# Altium integrated library Linear Technology Operational Amplifiers (LT2000-LT6000).IntLib: 1710 symbols (part 8 of 75)
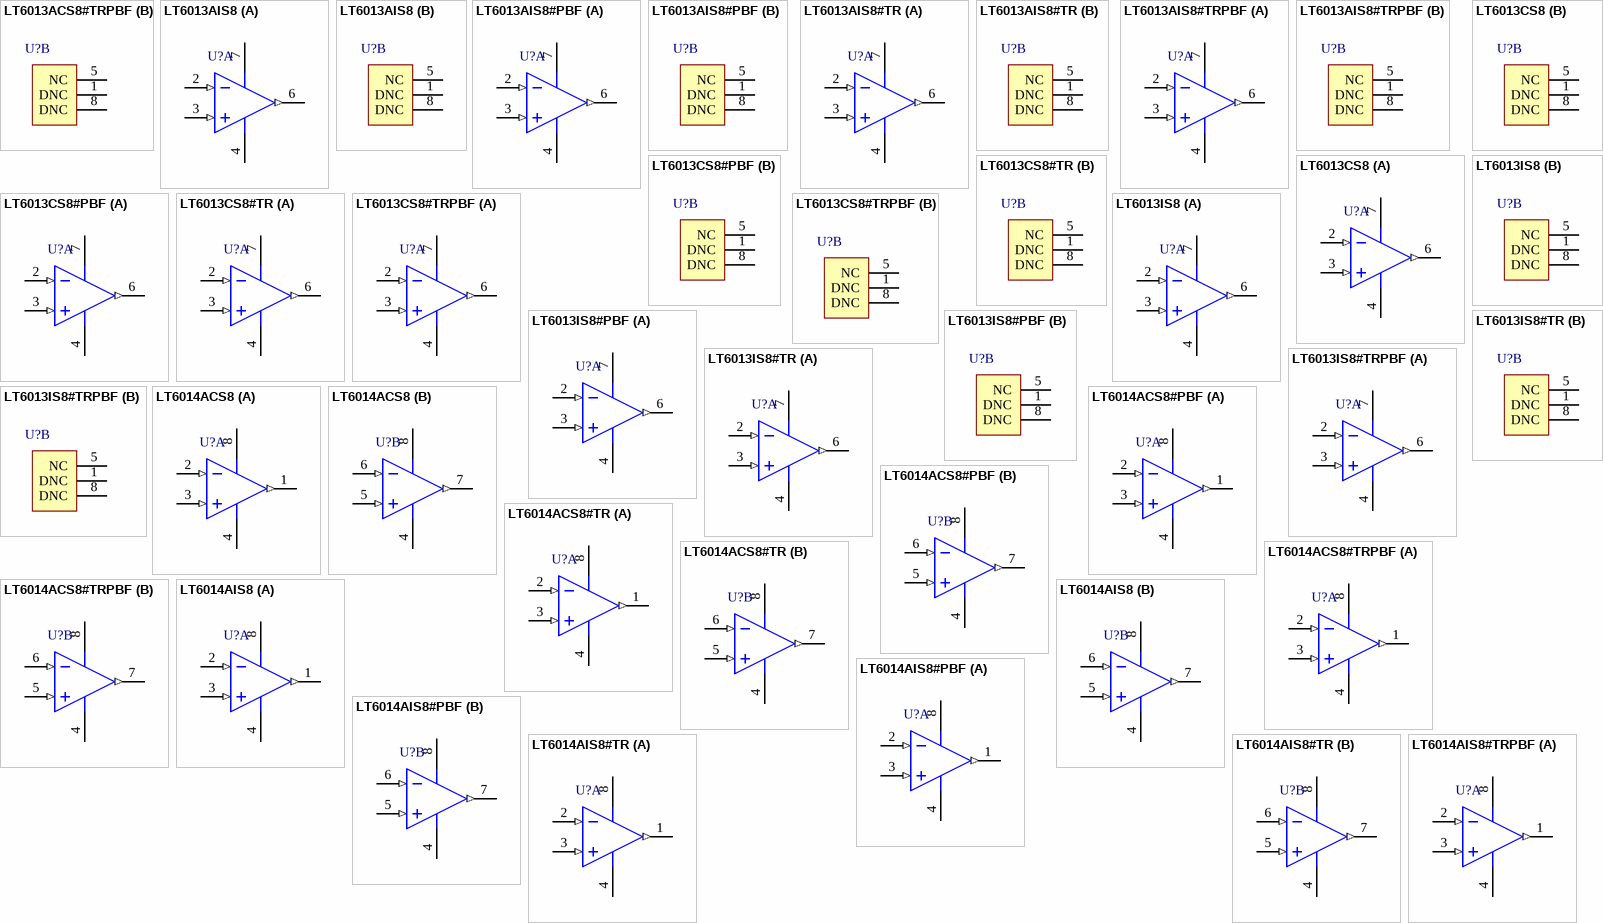
[diagram p87: symbols LT6013ACS8#TRPBF to LT6014AIS8#TRPBF]

## LT6013CS8#PBF
designator U?
Single Channel, Micropower, Precision Operational Amplifier, RRO, 1.6 MHz Typical GBW, 0.2 V/us Typical SR, 2.7 to 40 V, 8-Pin SOIC (S8-8), Commercial, Pb-Free; Linear Technology Part Number: LT6013; Manufacturer: Linear Technology; PartNumber: LT6013CS8#PBF; Channels (#): 1; GBW (MHz) Typical: 1.6; Is (mA) Typical: 0.145; SR (V/us) Typical: 0.2; Vos (mV) Guaranteed: 0.035; Vos (mV) Typical: 0.01; Vs Max (V): 40; Vs Min (V): 2.7; DatasheetVersion: Rev. B; PackageVersion: Rev G; PackageReference: LT-S8-8; PackageDescription: 8-Pin Plastic Small Outline, Body 4.9 x 3.9 mm, Pitch 1.27 mm; Supplier 1: Digi-Key; Supplier Part Number 1: LT6013CS8#PBF-ND; Supplier 2: Farnell; Supplier Part Number 2: 1330746; Supplier 3: Newark; Supplier Part Number 3: 57M9069; RoHS: Pb-Free; Type: VFB; Mounting Technology: Surface Mount; ComponentLink1Description: Manufacturer URL; ComponentLink1URL: http://www.linear.com/; ComponentLink2Description: Datasheet; ComponentLink2URL: http://cds.linear.com/docs/en/datasheet/60134fb.pdf; ComponentLink3Description: Package Specification; ComponentLink3URL: http://cds.linear.com/docs/en/packaging/05081610_G_SO8.pdf
footprint LT-S8-8_N (SOIC, 8-Leads, Body 4.9x3.9mm, Pitch 1.27mm, IPC Medium Density)
footprint LT-S8-8_L (SOIC, 8-Leads, Body 4.9x3.9mm, Pitch 1.27mm, IPC High Density)
footprint LT-S8-8_M (SOIC, 8-Leads, Body 4.9x3.9mm, Pitch 1.27mm, IPC Low Density)
part A pins: 2 -IN (in), 3 +IN (in), 4 V- (power), 6 OUT (out), 7 V+ (power)
part B pins: 1 DNC, 5 NC, 8 DNC

## LT6013CS8#TR
designator U?
Single Channel, Micropower, Precision Operational Amplifier, RRO, 1.6 MHz Typical GBW, 0.2 V/us Typical SR, 2.7 to 40 V, 8-Pin SOIC (S8-8), Commercial, Reel; Linear Technology Part Number: LT6013; Manufacturer: Linear Technology; PartNumber: LT6013CS8#TR; Channels (#): 1; GBW (MHz) Typical: 1.6; Is (mA) Typical: 0.145; SR (V/us) Typical: 0.2; Vos (mV) Guaranteed: 0.035; Vos (mV) Typical: 0.01; Vs Max (V): 40; Vs Min (V): 2.7; DatasheetVersion: Rev. B; PackageVersion: Rev G; PackageReference: LT-S8-8; PackageDescription: 8-Pin Plastic Small Outline, Body 4.9 x 3.9 mm, Pitch 1.27 mm; Supplier 1: Digi-Key; Supplier Part Number 1: LT6013CS8#TR-ND; Packing: Reel; Type: VFB; Mounting Technology: Surface Mount; ComponentLink1Description: Manufacturer URL; ComponentLink1URL: http://www.linear.com/; ComponentLink2Description: Datasheet; ComponentLink2URL: http://cds.linear.com/docs/en/datasheet/60134fb.pdf; ComponentLink3Description: Package Specification; ComponentLink3URL: http://cds.linear.com/docs/en/packaging/05081610_G_SO8.pdf
footprint LT-S8-8_N (SOIC, 8-Leads, Body 4.9x3.9mm, Pitch 1.27mm, IPC Medium Density)
footprint LT-S8-8_L (SOIC, 8-Leads, Body 4.9x3.9mm, Pitch 1.27mm, IPC High Density)
footprint LT-S8-8_M (SOIC, 8-Leads, Body 4.9x3.9mm, Pitch 1.27mm, IPC Low Density)
part A pins: 2 -IN (in), 3 +IN (in), 4 V- (power), 6 OUT (out), 7 V+ (power)
part B pins: 1 DNC, 5 NC, 8 DNC

## LT6013CS8#TRPBF
designator U?
Single Channel, Micropower, Precision Operational Amplifier, RRO, 1.6 MHz Typical GBW, 0.2 V/us Typical SR, 2.7 to 40 V, 8-Pin SOIC (S8-8), Commercial, Pb-Free, Reel; Linear Technology Part Number: LT6013; Manufacturer: Linear Technology; PartNumber: LT6013CS8#TRPBF; Channels (#): 1; GBW (MHz) Typical: 1.6; Is (mA) Typical: 0.145; SR (V/us) Typical: 0.2; Vos (mV) Guaranteed: 0.035; Vos (mV) Typical: 0.01; Vs Max (V): 40; Vs Min (V): 2.7; DatasheetVersion: Rev. B; PackageVersion: Rev G; PackageReference: LT-S8-8; PackageDescription: 8-Pin Plastic Small Outline, Body 4.9 x 3.9 mm, Pitch 1.27 mm; Supplier 1: Digi-Key; Supplier Part Number 1: LT6013CS8#TRPBF-ND; Supplier 2: Newark; Supplier Part Number 2: 57M9071; Packing: Reel; RoHS: Pb-Free; Type: VFB; Mounting Technology: Surface Mount; ComponentLink1Description: Manufacturer URL; ComponentLink1URL: http://www.linear.com/; ComponentLink2Description: Datasheet; ComponentLink2URL: http://cds.linear.com/docs/en/datasheet/60134fb.pdf; ComponentLink3Description: Package Specification; ComponentLink3URL: http://cds.linear.com/docs/en/packaging/05081610_G_SO8.pdf
footprint LT-S8-8_N (SOIC, 8-Leads, Body 4.9x3.9mm, Pitch 1.27mm, IPC Medium Density)
footprint LT-S8-8_L (SOIC, 8-Leads, Body 4.9x3.9mm, Pitch 1.27mm, IPC High Density)
footprint LT-S8-8_M (SOIC, 8-Leads, Body 4.9x3.9mm, Pitch 1.27mm, IPC Low Density)
part A pins: 2 -IN (in), 3 +IN (in), 4 V- (power), 6 OUT (out), 7 V+ (power)
part B pins: 1 DNC, 5 NC, 8 DNC

## LT6013IS8
designator U?
Single Channel, Micropower, Precision Operational Amplifier, RRO, 1.6 MHz Typical GBW, 0.2 V/us Typical SR, 2.7 to 40 V, 8-Pin SOIC (S8-8), Industrial; Linear Technology Part Number: LT6013; Manufacturer: Linear Technology; PartNumber: LT6013IS8; Channels (#): 1; GBW (MHz) Typical: 1.6; Is (mA) Typical: 0.145; SR (V/us) Typical: 0.2; Vos (mV) Guaranteed: 0.035; Vos (mV) Typical: 0.01; Vs Max (V): 40; Vs Min (V): 2.7; DatasheetVersion: Rev. B; PackageVersion: Rev G; PackageReference: LT-S8-8; PackageDescription: 8-Pin Plastic Small Outline, Body 4.9 x 3.9 mm, Pitch 1.27 mm; Supplier 1: Digi-Key; Supplier Part Number 1: LT6013IS8-ND; Type: VFB; Mounting Technology: Surface Mount; ComponentLink1Description: Manufacturer URL; ComponentLink1URL: http://www.linear.com/; ComponentLink2Description: Datasheet; ComponentLink2URL: http://cds.linear.com/docs/en/datasheet/60134fb.pdf; ComponentLink3Description: Package Specification; ComponentLink3URL: http://cds.linear.com/docs/en/packaging/05081610_G_SO8.pdf
footprint LT-S8-8_N (SOIC, 8-Leads, Body 4.9x3.9mm, Pitch 1.27mm, IPC Medium Density)
footprint LT-S8-8_L (SOIC, 8-Leads, Body 4.9x3.9mm, Pitch 1.27mm, IPC High Density)
footprint LT-S8-8_M (SOIC, 8-Leads, Body 4.9x3.9mm, Pitch 1.27mm, IPC Low Density)
part A pins: 2 -IN (in), 3 +IN (in), 4 V- (power), 6 OUT (out), 7 V+ (power)
part B pins: 1 DNC, 5 NC, 8 DNC

## LT6013IS8#PBF
designator U?
Single Channel, Micropower, Precision Operational Amplifier, RRO, 1.6 MHz Typical GBW, 0.2 V/us Typical SR, 2.7 to 40 V, 8-Pin SOIC (S8-8), Industrial, Pb-Free; Linear Technology Part Number: LT6013; Manufacturer: Linear Technology; PartNumber: LT6013IS8#PBF; Channels (#): 1; GBW (MHz) Typical: 1.6; Is (mA) Typical: 0.145; SR (V/us) Typical: 0.2; Vos (mV) Guaranteed: 0.035; Vos (mV) Typical: 0.01; Vs Max (V): 40; Vs Min (V): 2.7; DatasheetVersion: Rev. B; PackageVersion: Rev G; PackageReference: LT-S8-8; PackageDescription: 8-Pin Plastic Small Outline, Body 4.9 x 3.9 mm, Pitch 1.27 mm; Supplier 1: Digi-Key; Supplier Part Number 1: LT6013IS8#PBF-ND; RoHS: Pb-Free; Type: VFB; Mounting Technology: Surface Mount; ComponentLink1Description: Manufacturer URL; ComponentLink1URL: http://www.linear.com/; ComponentLink2Description: Datasheet; ComponentLink2URL: http://cds.linear.com/docs/en/datasheet/60134fb.pdf; ComponentLink3Description: Package Specification; ComponentLink3URL: http://cds.linear.com/docs/en/packaging/05081610_G_SO8.pdf
footprint LT-S8-8_N (SOIC, 8-Leads, Body 4.9x3.9mm, Pitch 1.27mm, IPC Medium Density)
footprint LT-S8-8_L (SOIC, 8-Leads, Body 4.9x3.9mm, Pitch 1.27mm, IPC High Density)
footprint LT-S8-8_M (SOIC, 8-Leads, Body 4.9x3.9mm, Pitch 1.27mm, IPC Low Density)
part A pins: 2 -IN (in), 3 +IN (in), 4 V- (power), 6 OUT (out), 7 V+ (power)
part B pins: 1 DNC, 5 NC, 8 DNC

## LT6013IS8#TR
designator U?
Single Channel, Micropower, Precision Operational Amplifier, RRO, 1.6 MHz Typical GBW, 0.2 V/us Typical SR, 2.7 to 40 V, 8-Pin SOIC (S8-8), Industrial, Reel; Linear Technology Part Number: LT6013; Manufacturer: Linear Technology; PartNumber: LT6013IS8#TR; Channels (#): 1; GBW (MHz) Typical: 1.6; Is (mA) Typical: 0.145; SR (V/us) Typical: 0.2; Vos (mV) Guaranteed: 0.035; Vos (mV) Typical: 0.01; Vs Max (V): 40; Vs Min (V): 2.7; DatasheetVersion: Rev. B; PackageVersion: Rev G; PackageReference: LT-S8-8; PackageDescription: 8-Pin Plastic Small Outline, Body 4.9 x 3.9 mm, Pitch 1.27 mm; Supplier 1: Digi-Key; Supplier Part Number 1: LT6013IS8#TR-ND; Packing: Reel; Type: VFB; Mounting Technology: Surface Mount; ComponentLink1Description: Manufacturer URL; ComponentLink1URL: http://www.linear.com/; ComponentLink2Description: Datasheet; ComponentLink2URL: http://cds.linear.com/docs/en/datasheet/60134fb.pdf; ComponentLink3Description: Package Specification; ComponentLink3URL: http://cds.linear.com/docs/en/packaging/05081610_G_SO8.pdf
footprint LT-S8-8_N (SOIC, 8-Leads, Body 4.9x3.9mm, Pitch 1.27mm, IPC Medium Density)
footprint LT-S8-8_L (SOIC, 8-Leads, Body 4.9x3.9mm, Pitch 1.27mm, IPC High Density)
footprint LT-S8-8_M (SOIC, 8-Leads, Body 4.9x3.9mm, Pitch 1.27mm, IPC Low Density)
part A pins: 2 -IN (in), 3 +IN (in), 4 V- (power), 6 OUT (out), 7 V+ (power)
part B pins: 1 DNC, 5 NC, 8 DNC

## LT6013IS8#TRPBF
designator U?
Single Channel, Micropower, Precision Operational Amplifier, RRO, 1.6 MHz Typical GBW, 0.2 V/us Typical SR, 2.7 to 40 V, 8-Pin SOIC (S8-8), Industrial, Pb-Free, Reel; Linear Technology Part Number: LT6013; Manufacturer: Linear Technology; PartNumber: LT6013IS8#TRPBF; Channels (#): 1; GBW (MHz) Typical: 1.6; Is (mA) Typical: 0.145; SR (V/us) Typical: 0.2; Vos (mV) Guaranteed: 0.035; Vos (mV) Typical: 0.01; Vs Max (V): 40; Vs Min (V): 2.7; DatasheetVersion: Rev. B; PackageVersion: Rev G; PackageReference: LT-S8-8; PackageDescription: 8-Pin Plastic Small Outline, Body 4.9 x 3.9 mm, Pitch 1.27 mm; Supplier 1: Digi-Key; Supplier Part Number 1: LT6013IS8#TRPBF-ND; Packing: Reel; RoHS: Pb-Free; Type: VFB; Mounting Technology: Surface Mount; ComponentLink1Description: Manufacturer URL; ComponentLink1URL: http://www.linear.com/; ComponentLink2Description: Datasheet; ComponentLink2URL: http://cds.linear.com/docs/en/datasheet/60134fb.pdf; ComponentLink3Description: Package Specification; ComponentLink3URL: http://cds.linear.com/docs/en/packaging/05081610_G_SO8.pdf
footprint LT-S8-8_N (SOIC, 8-Leads, Body 4.9x3.9mm, Pitch 1.27mm, IPC Medium Density)
footprint LT-S8-8_L (SOIC, 8-Leads, Body 4.9x3.9mm, Pitch 1.27mm, IPC High Density)
footprint LT-S8-8_M (SOIC, 8-Leads, Body 4.9x3.9mm, Pitch 1.27mm, IPC Low Density)
part A pins: 2 -IN (in), 3 +IN (in), 4 V- (power), 6 OUT (out), 7 V+ (power)
part B pins: 1 DNC, 5 NC, 8 DNC

## LT6014ACS8
designator U?
Dual Channel, Micropower, Precision Operational Amplifier, RRO, 1.6 MHz Typical GBW, 0.2 V/us Typical SR, 2.7 to 40 V, 8-Pin SOIC (S8-8), Commercial; Linear Technology Part Number: LT6014; Manufacturer: Linear Technology; PartNumber: LT6014ACS8; Channels (#): 2; GBW (MHz) Typical: 1.6; Is (mA) Typical: 0.145; SR (V/us) Typical: 0.2; Vos (mV) Guaranteed: 0.06; Vos (mV) Typical: 0.02; Vs Max (V): 40; Vs Min (V): 2.7; DatasheetVersion: Rev. B; PackageVersion: Rev G; PackageReference: LT-S8-8; PackageDescription: 8-Pin Plastic Small Outline, Body 4.9 x 3.9 mm, Pitch 1.27 mm; Supplier 1: Digi-Key; Supplier Part Number 1: LT6014ACS8-ND; Type: VFB; Mounting Technology: Surface Mount; ComponentLink1Description: Manufacturer URL; ComponentLink1URL: http://www.linear.com/; ComponentLink2Description: Datasheet; ComponentLink2URL: http://cds.linear.com/docs/en/datasheet/60134fb.pdf; ComponentLink3Description: Package Specification; ComponentLink3URL: http://cds.linear.com/docs/en/packaging/05081610_G_SO8.pdf
footprint LT-S8-8_N (SOIC, 8-Leads, Body 4.9x3.9mm, Pitch 1.27mm, IPC Medium Density)
footprint LT-S8-8_L (SOIC, 8-Leads, Body 4.9x3.9mm, Pitch 1.27mm, IPC High Density)
footprint LT-S8-8_M (SOIC, 8-Leads, Body 4.9x3.9mm, Pitch 1.27mm, IPC Low Density)
pins on every part: 4 V- (power), 8 V+ (power)
part A pins: 1 OUT A (out), 2 -IN A (in), 3 +IN A (in)
part B pins: 5 +IN B (in), 6 -IN B (in), 7 OUT B (out)

## LT6014ACS8#PBF
designator U?
Dual Channel, Micropower, Precision Operational Amplifier, RRO, 1.6 MHz Typical GBW, 0.2 V/us Typical SR, 2.7 to 40 V, 8-Pin SOIC (S8-8), Commercial, Pb-Free; Linear Technology Part Number: LT6014; Manufacturer: Linear Technology; PartNumber: LT6014ACS8#PBF; Channels (#): 2; GBW (MHz) Typical: 1.6; Is (mA) Typical: 0.145; SR (V/us) Typical: 0.2; Vos (mV) Guaranteed: 0.06; Vos (mV) Typical: 0.02; Vs Max (V): 40; Vs Min (V): 2.7; DatasheetVersion: Rev. B; PackageVersion: Rev G; PackageReference: LT-S8-8; PackageDescription: 8-Pin Plastic Small Outline, Body 4.9 x 3.9 mm, Pitch 1.27 mm; Supplier 1: Digi-Key; Supplier Part Number 1: LT6014ACS8#PBF-ND; Supplier 2: Farnell; Supplier Part Number 2: 1330747; Supplier 3: Newark; Supplier Part Number 3: 57M9085; RoHS: Pb-Free; Type: VFB; Mounting Technology: Surface Mount; ComponentLink1Description: Manufacturer URL; ComponentLink1URL: http://www.linear.com/; ComponentLink2Description: Datasheet; ComponentLink2URL: http://cds.linear.com/docs/en/datasheet/60134fb.pdf; ComponentLink3Description: Package Specification; ComponentLink3URL: http://cds.linear.com/docs/en/packaging/05081610_G_SO8.pdf
footprint LT-S8-8_N (SOIC, 8-Leads, Body 4.9x3.9mm, Pitch 1.27mm, IPC Medium Density)
footprint LT-S8-8_L (SOIC, 8-Leads, Body 4.9x3.9mm, Pitch 1.27mm, IPC High Density)
footprint LT-S8-8_M (SOIC, 8-Leads, Body 4.9x3.9mm, Pitch 1.27mm, IPC Low Density)
pins on every part: 4 V- (power), 8 V+ (power)
part A pins: 1 OUT A (out), 2 -IN A (in), 3 +IN A (in)
part B pins: 5 +IN B (in), 6 -IN B (in), 7 OUT B (out)

## LT6014ACS8#TR
designator U?
Dual Channel, Micropower, Precision Operational Amplifier, RRO, 1.6 MHz Typical GBW, 0.2 V/us Typical SR, 2.7 to 40 V, 8-Pin SOIC (S8-8), Commercial, Reel; Linear Technology Part Number: LT6014; Manufacturer: Linear Technology; PartNumber: LT6014ACS8#TR; Channels (#): 2; GBW (MHz) Typical: 1.6; Is (mA) Typical: 0.145; SR (V/us) Typical: 0.2; Vos (mV) Guaranteed: 0.06; Vos (mV) Typical: 0.02; Vs Max (V): 40; Vs Min (V): 2.7; DatasheetVersion: Rev. B; PackageVersion: Rev G; PackageReference: LT-S8-8; PackageDescription: 8-Pin Plastic Small Outline, Body 4.9 x 3.9 mm, Pitch 1.27 mm; Supplier 1: Digi-Key; Supplier Part Number 1: LT6014ACS8#TR-ND; Packing: Reel; Type: VFB; Mounting Technology: Surface Mount; ComponentLink1Description: Manufacturer URL; ComponentLink1URL: http://www.linear.com/; ComponentLink2Description: Datasheet; ComponentLink2URL: http://cds.linear.com/docs/en/datasheet/60134fb.pdf; ComponentLink3Description: Package Specification; ComponentLink3URL: http://cds.linear.com/docs/en/packaging/05081610_G_SO8.pdf
footprint LT-S8-8_N (SOIC, 8-Leads, Body 4.9x3.9mm, Pitch 1.27mm, IPC Medium Density)
footprint LT-S8-8_L (SOIC, 8-Leads, Body 4.9x3.9mm, Pitch 1.27mm, IPC High Density)
footprint LT-S8-8_M (SOIC, 8-Leads, Body 4.9x3.9mm, Pitch 1.27mm, IPC Low Density)
pins on every part: 4 V- (power), 8 V+ (power)
part A pins: 1 OUT A (out), 2 -IN A (in), 3 +IN A (in)
part B pins: 5 +IN B (in), 6 -IN B (in), 7 OUT B (out)

## LT6014ACS8#TRPBF
designator U?
Dual Channel, Micropower, Precision Operational Amplifier, RRO, 1.6 MHz Typical GBW, 0.2 V/us Typical SR, 2.7 to 40 V, 8-Pin SOIC (S8-8), Commercial, Pb-Free, Reel; Linear Technology Part Number: LT6014; Manufacturer: Linear Technology; PartNumber: LT6014ACS8#TRPBF; Channels (#): 2; GBW (MHz) Typical: 1.6; Is (mA) Typical: 0.145; SR (V/us) Typical: 0.2; Vos (mV) Guaranteed: 0.06; Vos (mV) Typical: 0.02; Vs Max (V): 40; Vs Min (V): 2.7; DatasheetVersion: Rev. B; PackageVersion: Rev G; PackageReference: LT-S8-8; PackageDescription: 8-Pin Plastic Small Outline, Body 4.9 x 3.9 mm, Pitch 1.27 mm; Supplier 1: Digi-Key; Supplier Part Number 1: LT6014ACS8#TRPBF-ND; Packing: Reel; RoHS: Pb-Free; Type: VFB; Mounting Technology: Surface Mount; ComponentLink1Description: Manufacturer URL; ComponentLink1URL: http://www.linear.com/; ComponentLink2Description: Datasheet; ComponentLink2URL: http://cds.linear.com/docs/en/datasheet/60134fb.pdf; ComponentLink3Description: Package Specification; ComponentLink3URL: http://cds.linear.com/docs/en/packaging/05081610_G_SO8.pdf
footprint LT-S8-8_N (SOIC, 8-Leads, Body 4.9x3.9mm, Pitch 1.27mm, IPC Medium Density)
footprint LT-S8-8_L (SOIC, 8-Leads, Body 4.9x3.9mm, Pitch 1.27mm, IPC High Density)
footprint LT-S8-8_M (SOIC, 8-Leads, Body 4.9x3.9mm, Pitch 1.27mm, IPC Low Density)
pins on every part: 4 V- (power), 8 V+ (power)
part A pins: 1 OUT A (out), 2 -IN A (in), 3 +IN A (in)
part B pins: 5 +IN B (in), 6 -IN B (in), 7 OUT B (out)

## LT6014AIS8
designator U?
Dual Channel, Micropower, Precision Operational Amplifier, RRO, 1.6 MHz Typical GBW, 0.2 V/us Typical SR, 2.7 to 40 V, 8-Pin SOIC (S8-8), Industrial; Linear Technology Part Number: LT6014; Manufacturer: Linear Technology; PartNumber: LT6014AIS8; Channels (#): 2; GBW (MHz) Typical: 1.6; Is (mA) Typical: 0.145; SR (V/us) Typical: 0.2; Vos (mV) Guaranteed: 0.06; Vos (mV) Typical: 0.02; Vs Max (V): 40; Vs Min (V): 2.7; DatasheetVersion: Rev. B; PackageVersion: Rev G; PackageReference: LT-S8-8; PackageDescription: 8-Pin Plastic Small Outline, Body 4.9 x 3.9 mm, Pitch 1.27 mm; Supplier 1: Digi-Key; Supplier Part Number 1: LT6014AIS8-ND; Type: VFB; Mounting Technology: Surface Mount; ComponentLink1Description: Manufacturer URL; ComponentLink1URL: http://www.linear.com/; ComponentLink2Description: Datasheet; ComponentLink2URL: http://cds.linear.com/docs/en/datasheet/60134fb.pdf; ComponentLink3Description: Package Specification; ComponentLink3URL: http://cds.linear.com/docs/en/packaging/05081610_G_SO8.pdf
footprint LT-S8-8_N (SOIC, 8-Leads, Body 4.9x3.9mm, Pitch 1.27mm, IPC Medium Density)
footprint LT-S8-8_L (SOIC, 8-Leads, Body 4.9x3.9mm, Pitch 1.27mm, IPC High Density)
footprint LT-S8-8_M (SOIC, 8-Leads, Body 4.9x3.9mm, Pitch 1.27mm, IPC Low Density)
pins on every part: 4 V- (power), 8 V+ (power)
part A pins: 1 OUT A (out), 2 -IN A (in), 3 +IN A (in)
part B pins: 5 +IN B (in), 6 -IN B (in), 7 OUT B (out)

## LT6014AIS8#PBF
designator U?
Dual Channel, Micropower, Precision Operational Amplifier, RRO, 1.6 MHz Typical GBW, 0.2 V/us Typical SR, 2.7 to 40 V, 8-Pin SOIC (S8-8), Industrial, Pb-Free; Linear Technology Part Number: LT6014; Manufacturer: Linear Technology; PartNumber: LT6014AIS8#PBF; Channels (#): 2; GBW (MHz) Typical: 1.6; Is (mA) Typical: 0.145; SR (V/us) Typical: 0.2; Vos (mV) Guaranteed: 0.06; Vos (mV) Typical: 0.02; Vs Max (V): 40; Vs Min (V): 2.7; DatasheetVersion: Rev. B; PackageVersion: Rev G; PackageReference: LT-S8-8; PackageDescription: 8-Pin Plastic Small Outline, Body 4.9 x 3.9 mm, Pitch 1.27 mm; Supplier 1: Digi-Key; Supplier Part Number 1: LT6014AIS8#PBF-ND; RoHS: Pb-Free; Type: VFB; Mounting Technology: Surface Mount; ComponentLink1Description: Manufacturer URL; ComponentLink1URL: http://www.linear.com/; ComponentLink2Description: Datasheet; ComponentLink2URL: http://cds.linear.com/docs/en/datasheet/60134fb.pdf; ComponentLink3Description: Package Specification; ComponentLink3URL: http://cds.linear.com/docs/en/packaging/05081610_G_SO8.pdf
footprint LT-S8-8_N (SOIC, 8-Leads, Body 4.9x3.9mm, Pitch 1.27mm, IPC Medium Density)
footprint LT-S8-8_L (SOIC, 8-Leads, Body 4.9x3.9mm, Pitch 1.27mm, IPC High Density)
footprint LT-S8-8_M (SOIC, 8-Leads, Body 4.9x3.9mm, Pitch 1.27mm, IPC Low Density)
pins on every part: 4 V- (power), 8 V+ (power)
part A pins: 1 OUT A (out), 2 -IN A (in), 3 +IN A (in)
part B pins: 5 +IN B (in), 6 -IN B (in), 7 OUT B (out)

## LT6014AIS8#TR
designator U?
Dual Channel, Micropower, Precision Operational Amplifier, RRO, 1.6 MHz Typical GBW, 0.2 V/us Typical SR, 2.7 to 40 V, 8-Pin SOIC (S8-8), Industrial, Reel; Linear Technology Part Number: LT6014; Manufacturer: Linear Technology; PartNumber: LT6014AIS8#TR; Channels (#): 2; GBW (MHz) Typical: 1.6; Is (mA) Typical: 0.145; SR (V/us) Typical: 0.2; Vos (mV) Guaranteed: 0.06; Vos (mV) Typical: 0.02; Vs Max (V): 40; Vs Min (V): 2.7; DatasheetVersion: Rev. B; PackageVersion: Rev G; PackageReference: LT-S8-8; PackageDescription: 8-Pin Plastic Small Outline, Body 4.9 x 3.9 mm, Pitch 1.27 mm; Supplier 1: Digi-Key; Supplier Part Number 1: LT6014AIS8#TR-ND; Packing: Reel; Type: VFB; Mounting Technology: Surface Mount; ComponentLink1Description: Manufacturer URL; ComponentLink1URL: http://www.linear.com/; ComponentLink2Description: Datasheet; ComponentLink2URL: http://cds.linear.com/docs/en/datasheet/60134fb.pdf; ComponentLink3Description: Package Specification; ComponentLink3URL: http://cds.linear.com/docs/en/packaging/05081610_G_SO8.pdf
footprint LT-S8-8_N (SOIC, 8-Leads, Body 4.9x3.9mm, Pitch 1.27mm, IPC Medium Density)
footprint LT-S8-8_L (SOIC, 8-Leads, Body 4.9x3.9mm, Pitch 1.27mm, IPC High Density)
footprint LT-S8-8_M (SOIC, 8-Leads, Body 4.9x3.9mm, Pitch 1.27mm, IPC Low Density)
pins on every part: 4 V- (power), 8 V+ (power)
part A pins: 1 OUT A (out), 2 -IN A (in), 3 +IN A (in)
part B pins: 5 +IN B (in), 6 -IN B (in), 7 OUT B (out)

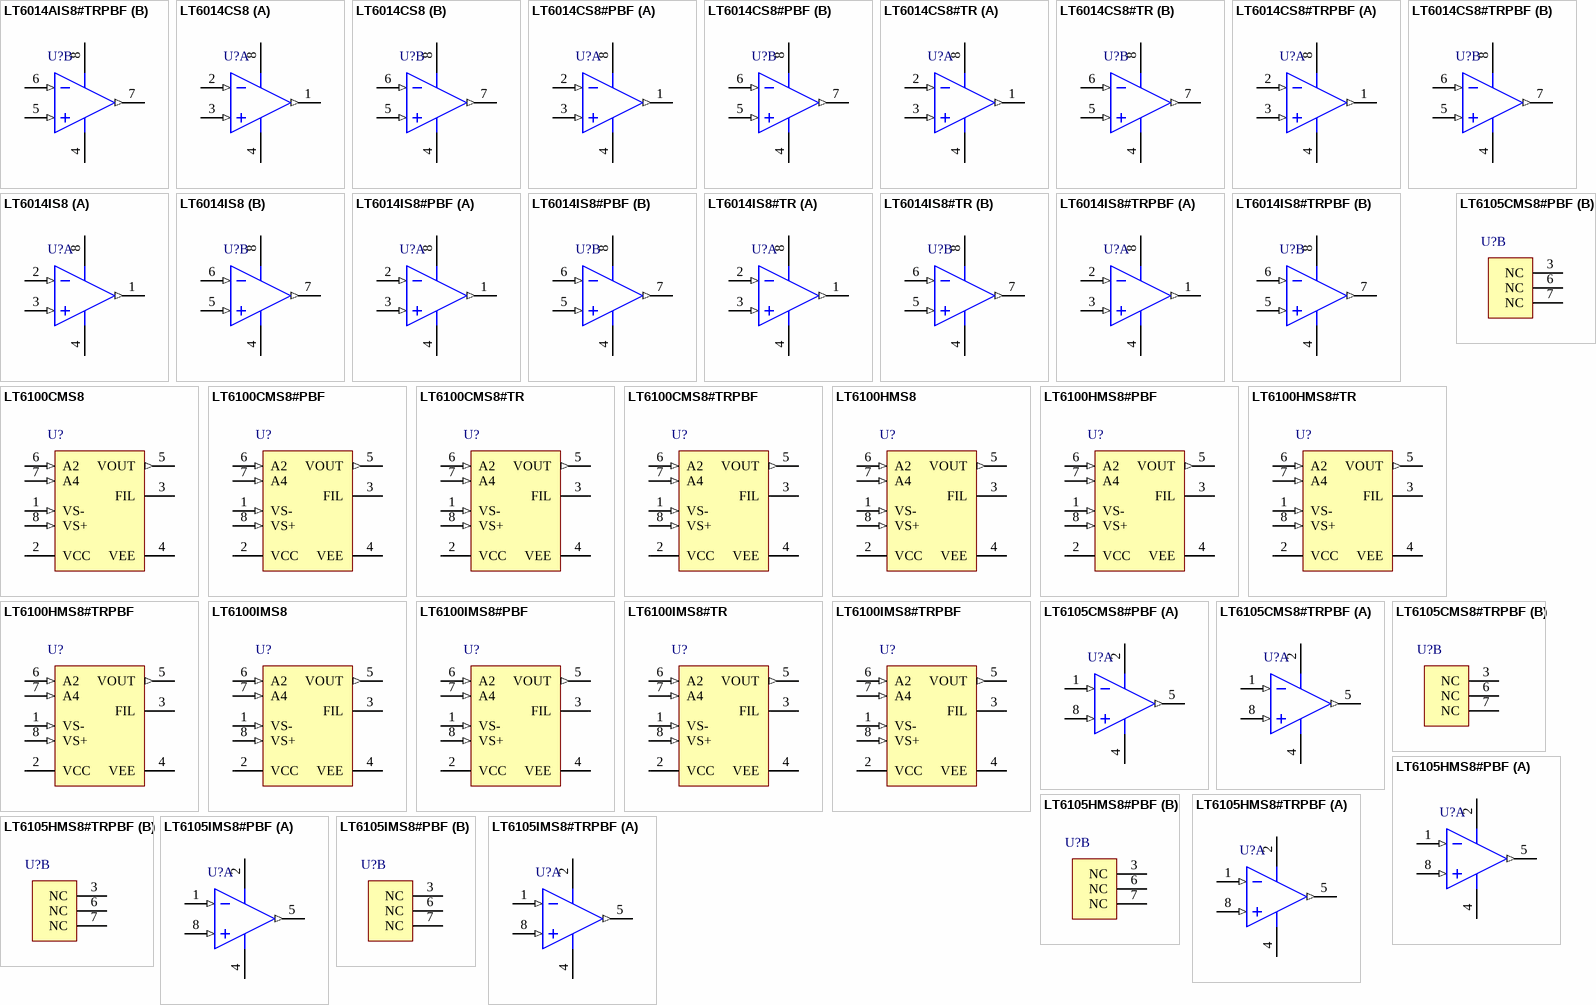
[diagram p15: symbols LT6014AIS8#TRPBF to LT6105IMS8#TRPBF]

## LT6014AIS8#TRPBF
designator U?
Dual Channel, Micropower, Precision Operational Amplifier, RRO, 1.6 MHz Typical GBW, 0.2 V/us Typical SR, 2.7 to 40 V, 8-Pin SOIC (S8-8), Industrial, Pb-Free, Reel; Linear Technology Part Number: LT6014; Manufacturer: Linear Technology; PartNumber: LT6014AIS8#TRPBF; Channels (#): 2; GBW (MHz) Typical: 1.6; Is (mA) Typical: 0.145; SR (V/us) Typical: 0.2; Vos (mV) Guaranteed: 0.06; Vos (mV) Typical: 0.02; Vs Max (V): 40; Vs Min (V): 2.7; DatasheetVersion: Rev. B; PackageVersion: Rev G; PackageReference: LT-S8-8; PackageDescription: 8-Pin Plastic Small Outline, Body 4.9 x 3.9 mm, Pitch 1.27 mm; Supplier 1: Digi-Key; Supplier Part Number 1: LT6014AIS8#TRPBF-ND; Packing: Reel; RoHS: Pb-Free; Type: VFB; Mounting Technology: Surface Mount; ComponentLink1Description: Manufacturer URL; ComponentLink1URL: http://www.linear.com/; ComponentLink2Description: Datasheet; ComponentLink2URL: http://cds.linear.com/docs/en/datasheet/60134fb.pdf; ComponentLink3Description: Package Specification; ComponentLink3URL: http://cds.linear.com/docs/en/packaging/05081610_G_SO8.pdf
footprint LT-S8-8_N (SOIC, 8-Leads, Body 4.9x3.9mm, Pitch 1.27mm, IPC Medium Density)
footprint LT-S8-8_L (SOIC, 8-Leads, Body 4.9x3.9mm, Pitch 1.27mm, IPC High Density)
footprint LT-S8-8_M (SOIC, 8-Leads, Body 4.9x3.9mm, Pitch 1.27mm, IPC Low Density)
pins on every part: 4 V- (power), 8 V+ (power)
part A pins: 1 OUT A (out), 2 -IN A (in), 3 +IN A (in)
part B pins: 5 +IN B (in), 6 -IN B (in), 7 OUT B (out)

## LT6014CS8
designator U?
Dual Channel, Micropower, Precision Operational Amplifier, RRO, 1.6 MHz Typical GBW, 0.2 V/us Typical SR, 2.7 to 40 V, 8-Lead SOIC (S8-8), Commerical; Linear Technology Part Number: LT6014; Manufacturer: Linear Technology; PartNumber: LT6014CS8; Channels (#): 2; GBW (MHz) Typical: 1.6; Is (mA) Typical: 0.145; SR (V/us) Typical: 0.2; Vos (mV) Guaranteed: 0.06; Vos (mV) Typical: 0.02; Vs Max (V): 40; Vs Min (V): 2.7; DatasheetVersion: Rev. B; PackageVersion: Rev G; PackageReference: LT-S8-8; PackageDescription: 8-Pin Plastic Small Outline, Body 4.9 x 3.9 mm, Pitch 1.27 mm; Supplier 1: Digi-Key; Supplier Part Number 1: LT6014CS8-ND; Type: VFB; Mounting Technology: Surface Mount; ComponentLink1Description: Manufacturer URL; ComponentLink1URL: http://www.linear.com/; ComponentLink2Description: Datasheet; ComponentLink2URL: http://cds.linear.com/docs/en/datasheet/60134fb.pdf; ComponentLink3Description: Package Specification; ComponentLink3URL: http://cds.linear.com/docs/en/packaging/05081610_G_SO8.pdf
footprint LT-S8-8_N (SOIC, 8-Leads, Body 4.9x3.9mm, Pitch 1.27mm, IPC Medium Density)
footprint LT-S8-8_L (SOIC, 8-Leads, Body 4.9x3.9mm, Pitch 1.27mm, IPC High Density)
footprint LT-S8-8_M (SOIC, 8-Leads, Body 4.9x3.9mm, Pitch 1.27mm, IPC Low Density)
pins on every part: 4 V- (power), 8 V+ (power)
part A pins: 1 OUT A (out), 2 -IN A (in), 3 +IN A (in)
part B pins: 5 +IN B (in), 6 -IN B (in), 7 OUT B (out)

## LT6014CS8#PBF
designator U?
Dual Channel, Micropower, Precision Operational Amplifier, RRO, 1.6 MHz Typical GBW, 0.2 V/us Typical SR, 2.7 to 40 V, 8-Lead SOIC (S8-8), Commerical, Pb-Free; Linear Technology Part Number: LT6014; Manufacturer: Linear Technology; PartNumber: LT6014CS8#PBF; Channels (#): 2; GBW (MHz) Typical: 1.6; Is (mA) Typical: 0.145; SR (V/us) Typical: 0.2; Vos (mV) Guaranteed: 0.06; Vos (mV) Typical: 0.02; Vs Max (V): 40; Vs Min (V): 2.7; DatasheetVersion: Rev. B; PackageVersion: Rev G; PackageReference: LT-S8-8; PackageDescription: 8-Pin Plastic Small Outline, Body 4.9 x 3.9 mm, Pitch 1.27 mm; Supplier 1: Digi-Key; Supplier Part Number 1: LT6014CS8#PBF-ND; Supplier 2: Farnell; Supplier Part Number 2: 1330748; Supplier 3: Newark; Supplier Part Number 3: 57M9101; RoHS: Pb-Free; Type: VFB; Mounting Technology: Surface Mount; ComponentLink1Description: Manufacturer URL; ComponentLink1URL: http://www.linear.com/; ComponentLink2Description: Datasheet; ComponentLink2URL: http://cds.linear.com/docs/en/datasheet/60134fb.pdf; ComponentLink3Description: Package Specification; ComponentLink3URL: http://cds.linear.com/docs/en/packaging/05081610_G_SO8.pdf
footprint LT-S8-8_N (SOIC, 8-Leads, Body 4.9x3.9mm, Pitch 1.27mm, IPC Medium Density)
footprint LT-S8-8_L (SOIC, 8-Leads, Body 4.9x3.9mm, Pitch 1.27mm, IPC High Density)
footprint LT-S8-8_M (SOIC, 8-Leads, Body 4.9x3.9mm, Pitch 1.27mm, IPC Low Density)
pins on every part: 4 V- (power), 8 V+ (power)
part A pins: 1 OUT A (out), 2 -IN A (in), 3 +IN A (in)
part B pins: 5 +IN B (in), 6 -IN B (in), 7 OUT B (out)

## LT6014CS8#TR
designator U?
Dual Channel, Micropower, Precision Operational Amplifier, RRO, 1.6 MHz Typical GBW, 0.2 V/us Typical SR, 2.7 to 40 V, 8-Lead SOIC (S8-8), Commerical, Reel; Linear Technology Part Number: LT6014; Manufacturer: Linear Technology; PartNumber: LT6014CS8#TR; Channels (#): 2; GBW (MHz) Typical: 1.6; Is (mA) Typical: 0.145; SR (V/us) Typical: 0.2; Vos (mV) Guaranteed: 0.06; Vos (mV) Typical: 0.02; Vs Max (V): 40; Vs Min (V): 2.7; DatasheetVersion: Rev. B; PackageVersion: Rev G; PackageReference: LT-S8-8; PackageDescription: 8-Pin Plastic Small Outline, Body 4.9 x 3.9 mm, Pitch 1.27 mm; Supplier 1: Digi-Key; Supplier Part Number 1: LT6014CS8#TR-ND; Packing: Reel; Type: VFB; Mounting Technology: Surface Mount; ComponentLink1Description: Manufacturer URL; ComponentLink1URL: http://www.linear.com/; ComponentLink2Description: Datasheet; ComponentLink2URL: http://cds.linear.com/docs/en/datasheet/60134fb.pdf; ComponentLink3Description: Package Specification; ComponentLink3URL: http://cds.linear.com/docs/en/packaging/05081610_G_SO8.pdf
footprint LT-S8-8_N (SOIC, 8-Leads, Body 4.9x3.9mm, Pitch 1.27mm, IPC Medium Density)
footprint LT-S8-8_L (SOIC, 8-Leads, Body 4.9x3.9mm, Pitch 1.27mm, IPC High Density)
footprint LT-S8-8_M (SOIC, 8-Leads, Body 4.9x3.9mm, Pitch 1.27mm, IPC Low Density)
pins on every part: 4 V- (power), 8 V+ (power)
part A pins: 1 OUT A (out), 2 -IN A (in), 3 +IN A (in)
part B pins: 5 +IN B (in), 6 -IN B (in), 7 OUT B (out)

## LT6014CS8#TRPBF
designator U?
Dual Channel, Micropower, Precision Operational Amplifier, RRO, 1.6 MHz Typical GBW, 0.2 V/us Typical SR, 2.7 to 40 V, 8-Lead SOIC (S8-8), Commerical, Pb-Free, Reel; Linear Technology Part Number: LT6014; Manufacturer: Linear Technology; PartNumber: LT6014CS8#TRPBF; Channels (#): 2; GBW (MHz) Typical: 1.6; Is (mA) Typical: 0.145; SR (V/us) Typical: 0.2; Vos (mV) Guaranteed: 0.06; Vos (mV) Typical: 0.02; Vs Max (V): 40; Vs Min (V): 2.7; DatasheetVersion: Rev. B; PackageVersion: Rev G; PackageReference: LT-S8-8; PackageDescription: 8-Pin Plastic Small Outline, Body 4.9 x 3.9 mm, Pitch 1.27 mm; Supplier 1: Digi-Key; Supplier Part Number 1: LT6014CS8#TRPBF-ND; Packing: Reel; RoHS: Pb-Free; Type: VFB; Mounting Technology: Surface Mount; ComponentLink1Description: Manufacturer URL; ComponentLink1URL: http://www.linear.com/; ComponentLink2Description: Datasheet; ComponentLink2URL: http://cds.linear.com/docs/en/datasheet/60134fb.pdf; ComponentLink3Description: Package Specification; ComponentLink3URL: http://cds.linear.com/docs/en/packaging/05081610_G_SO8.pdf
footprint LT-S8-8_N (SOIC, 8-Leads, Body 4.9x3.9mm, Pitch 1.27mm, IPC Medium Density)
footprint LT-S8-8_L (SOIC, 8-Leads, Body 4.9x3.9mm, Pitch 1.27mm, IPC High Density)
footprint LT-S8-8_M (SOIC, 8-Leads, Body 4.9x3.9mm, Pitch 1.27mm, IPC Low Density)
pins on every part: 4 V- (power), 8 V+ (power)
part A pins: 1 OUT A (out), 2 -IN A (in), 3 +IN A (in)
part B pins: 5 +IN B (in), 6 -IN B (in), 7 OUT B (out)

## LT6014IS8
designator U?
Dual Channel, Micropower, Precision Operational Amplifier, RRO, 1.6 MHz Typical GBW, 0.2 V/us Typical SR, 2.7 to 40 V, 8-Pin SOIC (S8-8), Industrial; Linear Technology Part Number: LT6014; Manufacturer: Linear Technology; PartNumber: LT6014IS8; Channels (#): 2; GBW (MHz) Typical: 1.6; Is (mA) Typical: 0.145; SR (V/us) Typical: 0.2; Vos (mV) Guaranteed: 0.06; Vos (mV) Typical: 0.02; Vs Max (V): 40; Vs Min (V): 2.7; DatasheetVersion: Rev. B; PackageVersion: Rev G; PackageReference: LT-S8-8; PackageDescription: 8-Pin Plastic Small Outline, Body 4.9 x 3.9 mm, Pitch 1.27 mm; Supplier 1: Digi-Key; Supplier Part Number 1: LT6014IS8-ND; Type: VFB; Mounting Technology: Surface Mount; ComponentLink1Description: Manufacturer URL; ComponentLink1URL: http://www.linear.com/; ComponentLink2Description: Datasheet; ComponentLink2URL: http://cds.linear.com/docs/en/datasheet/60134fb.pdf; ComponentLink3Description: Package Specification; ComponentLink3URL: http://cds.linear.com/docs/en/packaging/05081610_G_SO8.pdf
footprint LT-S8-8_N (SOIC, 8-Leads, Body 4.9x3.9mm, Pitch 1.27mm, IPC Medium Density)
footprint LT-S8-8_L (SOIC, 8-Leads, Body 4.9x3.9mm, Pitch 1.27mm, IPC High Density)
footprint LT-S8-8_M (SOIC, 8-Leads, Body 4.9x3.9mm, Pitch 1.27mm, IPC Low Density)
pins on every part: 4 V- (power), 8 V+ (power)
part A pins: 1 OUT A (out), 2 -IN A (in), 3 +IN A (in)
part B pins: 5 +IN B (in), 6 -IN B (in), 7 OUT B (out)

## LT6014IS8#PBF
designator U?
Dual Channel, Micropower, Precision Operational Amplifier, RRO, 1.6 MHz Typical GBW, 0.2 V/us Typical SR, 2.7 to 40 V, 8-Pin SOIC (S8-8), Industrial, Pb-Free; Linear Technology Part Number: LT6014; Manufacturer: Linear Technology; PartNumber: LT6014IS8#PBF; Channels (#): 2; GBW (MHz) Typical: 1.6; Is (mA) Typical: 0.145; SR (V/us) Typical: 0.2; Vos (mV) Guaranteed: 0.06; Vos (mV) Typical: 0.02; Vs Max (V): 40; Vs Min (V): 2.7; DatasheetVersion: Rev. B; PackageVersion: Rev G; PackageReference: LT-S8-8; PackageDescription: 8-Pin Plastic Small Outline, Body 4.9 x 3.9 mm, Pitch 1.27 mm; Supplier 1: Digi-Key; Supplier Part Number 1: LT6014IS8#PBF-ND; Supplier 2: Farnell; Supplier Part Number 2: 1663584; RoHS: Pb-Free; Type: VFB; Mounting Technology: Surface Mount; ComponentLink1Description: Manufacturer URL; ComponentLink1URL: http://www.linear.com/; ComponentLink2Description: Datasheet; ComponentLink2URL: http://cds.linear.com/docs/en/datasheet/60134fb.pdf; ComponentLink3Description: Package Specification; ComponentLink3URL: http://cds.linear.com/docs/en/packaging/05081610_G_SO8.pdf
footprint LT-S8-8_N (SOIC, 8-Leads, Body 4.9x3.9mm, Pitch 1.27mm, IPC Medium Density)
footprint LT-S8-8_L (SOIC, 8-Leads, Body 4.9x3.9mm, Pitch 1.27mm, IPC High Density)
footprint LT-S8-8_M (SOIC, 8-Leads, Body 4.9x3.9mm, Pitch 1.27mm, IPC Low Density)
pins on every part: 4 V- (power), 8 V+ (power)
part A pins: 1 OUT A (out), 2 -IN A (in), 3 +IN A (in)
part B pins: 5 +IN B (in), 6 -IN B (in), 7 OUT B (out)

## LT6014IS8#TR
designator U?
Dual Channel, Micropower, Precision Operational Amplifier, RRO, 1.6 MHz Typical GBW, 0.2 V/us Typical SR, 2.7 to 40 V, 8-Pin SOIC (S8-8), Industrial, Reel; Linear Technology Part Number: LT6014; Manufacturer: Linear Technology; PartNumber: LT6014IS8#TR; Channels (#): 2; GBW (MHz) Typical: 1.6; Is (mA) Typical: 0.145; SR (V/us) Typical: 0.2; Vos (mV) Guaranteed: 0.06; Vos (mV) Typical: 0.02; Vs Max (V): 40; Vs Min (V): 2.7; DatasheetVersion: Rev. B; PackageVersion: Rev G; PackageReference: LT-S8-8; PackageDescription: 8-Pin Plastic Small Outline, Body 4.9 x 3.9 mm, Pitch 1.27 mm; Supplier 1: Digi-Key; Supplier Part Number 1: LT6014IS8#TR-ND; Packing: Reel; Type: VFB; Mounting Technology: Surface Mount; ComponentLink1Description: Manufacturer URL; ComponentLink1URL: http://www.linear.com/; ComponentLink2Description: Datasheet; ComponentLink2URL: http://cds.linear.com/docs/en/datasheet/60134fb.pdf; ComponentLink3Description: Package Specification; ComponentLink3URL: http://cds.linear.com/docs/en/packaging/05081610_G_SO8.pdf
footprint LT-S8-8_N (SOIC, 8-Leads, Body 4.9x3.9mm, Pitch 1.27mm, IPC Medium Density)
footprint LT-S8-8_L (SOIC, 8-Leads, Body 4.9x3.9mm, Pitch 1.27mm, IPC High Density)
footprint LT-S8-8_M (SOIC, 8-Leads, Body 4.9x3.9mm, Pitch 1.27mm, IPC Low Density)
pins on every part: 4 V- (power), 8 V+ (power)
part A pins: 1 OUT A (out), 2 -IN A (in), 3 +IN A (in)
part B pins: 5 +IN B (in), 6 -IN B (in), 7 OUT B (out)

## LT6014IS8#TRPBF
designator U?
Dual Channel, Micropower, Precision Operational Amplifier, RRO, 1.6 MHz Typical GBW, 0.2 V/us Typical SR, 2.7 to 40 V, 8-Pin SOIC (S8-8), Industrial, Pb-Free, Reel; Linear Technology Part Number: LT6014; Manufacturer: Linear Technology; PartNumber: LT6014IS8#TRPBF; Channels (#): 2; GBW (MHz) Typical: 1.6; Is (mA) Typical: 0.145; SR (V/us) Typical: 0.2; Vos (mV) Guaranteed: 0.06; Vos (mV) Typical: 0.02; Vs Max (V): 40; Vs Min (V): 2.7; DatasheetVersion: Rev. B; PackageVersion: Rev G; PackageReference: LT-S8-8; PackageDescription: 8-Pin Plastic Small Outline, Body 4.9 x 3.9 mm, Pitch 1.27 mm; Supplier 1: Digi-Key; Supplier Part Number 1: LT6014IS8#TRPBF-ND; Packing: Reel; RoHS: Pb-Free; Type: VFB; Mounting Technology: Surface Mount; ComponentLink1Description: Manufacturer URL; ComponentLink1URL: http://www.linear.com/; ComponentLink2Description: Datasheet; ComponentLink2URL: http://cds.linear.com/docs/en/datasheet/60134fb.pdf; ComponentLink3Description: Package Specification; ComponentLink3URL: http://cds.linear.com/docs/en/packaging/05081610_G_SO8.pdf
footprint LT-S8-8_N (SOIC, 8-Leads, Body 4.9x3.9mm, Pitch 1.27mm, IPC Medium Density)
footprint LT-S8-8_L (SOIC, 8-Leads, Body 4.9x3.9mm, Pitch 1.27mm, IPC High Density)
footprint LT-S8-8_M (SOIC, 8-Leads, Body 4.9x3.9mm, Pitch 1.27mm, IPC Low Density)
pins on every part: 4 V- (power), 8 V+ (power)
part A pins: 1 OUT A (out), 2 -IN A (in), 3 +IN A (in)
part B pins: 5 +IN B (in), 6 -IN B (in), 7 OUT B (out)

## LT6100CMS8
designator U?
Single Channel, Precision, Gain Selectable Current Sense, High Side Current Sense Operational Amplifier, 0.15 MHz Typical GBW, 2.7 to 36 V, 8-Pin SOP (MS8-8), Commercial; Linear Technology Part Number: LT6100; Manufacturer: Linear Technology; PartNumber: LT6100CMS8; Channels (#): 1; GBW (MHz) Typical: 0.15; Is (mA) Typical: 0.06; Vos (mV) Guaranteed: 0.3; Vos (mV) Typical: 0.08; Vs Max (V): 36; Vs Min (V): 2.7; DatasheetVersion: Rev. B; PackageVersion: Rev G; PackageReference: LT-MS8-8; PackageDescription: 8-Lead Plastic Small Outline, Body 3.9 x 4.9 mm, Pitch 1.27 mm; Type: CSA; Mounting Technology: Surface Mount; ComponentLink1Description: Manufacturer URL; ComponentLink1URL: http://www.linear.com/; ComponentLink2Description: Datasheet; ComponentLink2URL: http://cds.linear.com/docs/en/datasheet/6100fb.pdf; ComponentLink3Description: Package Specification; ComponentLink3URL: http://cds.linear.com/docs/en/packaging/05081610_G_SO8.pdf
footprint LT-MS8-8_N (SOP, 8-Leads, Body 3x3mm, Pitch 0.65mm, IPC Medium Density)
footprint LT-MS8-8_L (SOP, 8-Leads, Body 3x3mm, Pitch 0.65mm, IPC High Density)
footprint LT-MS8-8_M (SOP, 8-Leads, Body 3x3mm, Pitch 0.65mm, IPC Low Density)
pins: 1 VS- (in) "Negative Sense Input Terminal. Negative sense voltage input will remain functional for voltages up to 48V. VS - is connected to an internal gain-setting resistor RG1 = 5k.", 2 VCC (power) "Supply Voltage Input. This power supply pin supplies current to both current sense amplifier and op amp.", 3 FIL "Filter Pin. Connects to an external capacitor to roll off differential noise of the system. Pole frequency f-3dB = 1/(2pRFILC), RFIL = RE + RO = 60k.", 4 VEE (power) "Negative Supply or Ground for Single Supply Operation.", 5 VOUT (out) "Voltage Output Proportional to the Magnitude of the Current Flowing Through RSENSE: VOUT = AV • (VSENSE +/- VOS) VOS is the input offset voltage. AV is the total gain of the LT6100.", 6 A2 (in) "Gain Select Pin.", 7 A4 (in) "Gain Select Pin. When Pin 7 is shorted to VEE, the total gain is 40V/V. When both Pin 6 and Pin 7 are shorted to VEE, the total gain is 50V/V. When both Pin 6 and Pin 7 are opened, the total gain is 10V/V.", 8 VS+ (in) "Positive Sense Input Terminal. Connecting a supply to VS + and a load to VS - will allow the LT6100 to monitor the current through RSENSE, refer to Figure 1. VS + is connected to an internal gain setting resistor RG2 = 5k. (See Datasheet)"

## LT6100CMS8#PBF
designator U?
Single Channel, Precision, Gain Selectable Current Sense, High Side Current Sense Operational Amplifier, 0.15 MHz Typical GBW, 2.7 to 36 V, 8-Pin SOP (MS8-8), Commercial, Pb-Free; Linear Technology Part Number: LT6100; Manufacturer: Linear Technology; PartNumber: LT6100CMS8#PBF; Channels (#): 1; GBW (MHz) Typical: 0.15; Is (mA) Typical: 0.06; Vos (mV) Guaranteed: 0.3; Vos (mV) Typical: 0.08; Vs Max (V): 36; Vs Min (V): 2.7; DatasheetVersion: Rev. B; PackageVersion: Rev G; PackageReference: LT-MS8-8; PackageDescription: 8-Lead Plastic Small Outline, Body 3.9 x 4.9 mm, Pitch 1.27 mm; Supplier 1: Digi-Key; Supplier Part Number 1: LT6100CMS8#PBF-ND; Supplier 2: Farnell; Supplier Part Number 2: 1330749; Supplier 3: Newark; Supplier Part Number 3: 57M9117; RoHS: Pb-Free; Type: CSA; Mounting Technology: Surface Mount; ComponentLink1Description: Manufacturer URL; ComponentLink1URL: http://www.linear.com/; ComponentLink2Description: Datasheet; ComponentLink2URL: http://cds.linear.com/docs/en/datasheet/6100fb.pdf; ComponentLink3Description: Package Specification; ComponentLink3URL: http://cds.linear.com/docs/en/packaging/05081610_G_SO8.pdf
footprint LT-MS8-8_N (SOP, 8-Leads, Body 3x3mm, Pitch 0.65mm, IPC Medium Density)
footprint LT-MS8-8_L (SOP, 8-Leads, Body 3x3mm, Pitch 0.65mm, IPC High Density)
footprint LT-MS8-8_M (SOP, 8-Leads, Body 3x3mm, Pitch 0.65mm, IPC Low Density)
pins: 1 VS- (in) "Negative Sense Input Terminal. Negative sense voltage input will remain functional for voltages up to 48V. VS - is connected to an internal gain-setting resistor RG1 = 5k.", 2 VCC (power) "Supply Voltage Input. This power supply pin supplies current to both current sense amplifier and op amp.", 3 FIL "Filter Pin. Connects to an external capacitor to roll off differential noise of the system. Pole frequency f-3dB = 1/(2pRFILC), RFIL = RE + RO = 60k.", 4 VEE (power) "Negative Supply or Ground for Single Supply Operation.", 5 VOUT (out) "Voltage Output Proportional to the Magnitude of the Current Flowing Through RSENSE: VOUT = AV • (VSENSE +/- VOS) VOS is the input offset voltage. AV is the total gain of the LT6100.", 6 A2 (in) "Gain Select Pin.", 7 A4 (in) "Gain Select Pin. When Pin 7 is shorted to VEE, the total gain is 40V/V. When both Pin 6 and Pin 7 are shorted to VEE, the total gain is 50V/V. When both Pin 6 and Pin 7 are opened, the total gain is 10V/V.", 8 VS+ (in) "Positive Sense Input Terminal. Connecting a supply to VS + and a load to VS - will allow the LT6100 to monitor the current through RSENSE, refer to Figure 1. VS + is connected to an internal gain setting resistor RG2 = 5k. (See Datasheet)"

## LT6100CMS8#TR
designator U?
Single Channel, Precision, Gain Selectable Current Sense, High Side Current Sense Operational Amplifier, 0.15 MHz Typical GBW, 2.7 to 36 V, 8-Pin SOP (MS8-8), Commercial, Reel; Linear Technology Part Number: LT6100; Manufacturer: Linear Technology; PartNumber: LT6100CMS8#TR; Channels (#): 1; GBW (MHz) Typical: 0.15; Is (mA) Typical: 0.06; Vos (mV) Guaranteed: 0.3; Vos (mV) Typical: 0.08; Vs Max (V): 36; Vs Min (V): 2.7; DatasheetVersion: Rev. B; PackageVersion: Rev G; PackageReference: LT-MS8-8; PackageDescription: 8-Lead Plastic Small Outline, Body 3.9 x 4.9 mm, Pitch 1.27 mm; Packing: Reel; Type: CSA; Mounting Technology: Surface Mount; ComponentLink1Description: Manufacturer URL; ComponentLink1URL: http://www.linear.com/; ComponentLink2Description: Datasheet; ComponentLink2URL: http://cds.linear.com/docs/en/datasheet/6100fb.pdf; ComponentLink3Description: Package Specification; ComponentLink3URL: http://cds.linear.com/docs/en/packaging/05081610_G_SO8.pdf
footprint LT-MS8-8_N (SOP, 8-Leads, Body 3x3mm, Pitch 0.65mm, IPC Medium Density)
footprint LT-MS8-8_L (SOP, 8-Leads, Body 3x3mm, Pitch 0.65mm, IPC High Density)
footprint LT-MS8-8_M (SOP, 8-Leads, Body 3x3mm, Pitch 0.65mm, IPC Low Density)
pins: 1 VS- (in) "Negative Sense Input Terminal. Negative sense voltage input will remain functional for voltages up to 48V. VS - is connected to an internal gain-setting resistor RG1 = 5k.", 2 VCC (power) "Supply Voltage Input. This power supply pin supplies current to both current sense amplifier and op amp.", 3 FIL "Filter Pin. Connects to an external capacitor to roll off differential noise of the system. Pole frequency f-3dB = 1/(2pRFILC), RFIL = RE + RO = 60k.", 4 VEE (power) "Negative Supply or Ground for Single Supply Operation.", 5 VOUT (out) "Voltage Output Proportional to the Magnitude of the Current Flowing Through RSENSE: VOUT = AV • (VSENSE +/- VOS) VOS is the input offset voltage. AV is the total gain of the LT6100.", 6 A2 (in) "Gain Select Pin.", 7 A4 (in) "Gain Select Pin. When Pin 7 is shorted to VEE, the total gain is 40V/V. When both Pin 6 and Pin 7 are shorted to VEE, the total gain is 50V/V. When both Pin 6 and Pin 7 are opened, the total gain is 10V/V.", 8 VS+ (in) "Positive Sense Input Terminal. Connecting a supply to VS + and a load to VS - will allow the LT6100 to monitor the current through RSENSE, refer to Figure 1. VS + is connected to an internal gain setting resistor RG2 = 5k. (See Datasheet)"

## LT6100CMS8#TRPBF
designator U?
Single Channel, Precision, Gain Selectable Current Sense, High Side Current Sense Operational Amplifier, 0.15 MHz Typical GBW, 2.7 to 36 V, 8-Pin SOP (MS8-8), Commercial, Pb-Free, Reel; Linear Technology Part Number: LT6100; Manufacturer: Linear Technology; PartNumber: LT6100CMS8#TRPBF; Channels (#): 1; GBW (MHz) Typical: 0.15; Is (mA) Typical: 0.06; Vos (mV) Guaranteed: 0.3; Vos (mV) Typical: 0.08; Vs Max (V): 36; Vs Min (V): 2.7; DatasheetVersion: Rev. B; PackageVersion: Rev G; PackageReference: LT-MS8-8; PackageDescription: 8-Lead Plastic Small Outline, Body 3.9 x 4.9 mm, Pitch 1.27 mm; Supplier 1: Digi-Key; Supplier Part Number 1: LT6100CMS8#TRPBF-ND; Packing: Reel; RoHS: Pb-Free; Type: CSA; Mounting Technology: Surface Mount; ComponentLink1Description: Manufacturer URL; ComponentLink1URL: http://www.linear.com/; ComponentLink2Description: Datasheet; ComponentLink2URL: http://cds.linear.com/docs/en/datasheet/6100fb.pdf; ComponentLink3Description: Package Specification; ComponentLink3URL: http://cds.linear.com/docs/en/packaging/05081610_G_SO8.pdf
footprint LT-MS8-8_N (SOP, 8-Leads, Body 3x3mm, Pitch 0.65mm, IPC Medium Density)
footprint LT-MS8-8_L (SOP, 8-Leads, Body 3x3mm, Pitch 0.65mm, IPC High Density)
footprint LT-MS8-8_M (SOP, 8-Leads, Body 3x3mm, Pitch 0.65mm, IPC Low Density)
pins: 1 VS- (in) "Negative Sense Input Terminal. Negative sense voltage input will remain functional for voltages up to 48V. VS - is connected to an internal gain-setting resistor RG1 = 5k.", 2 VCC (power) "Supply Voltage Input. This power supply pin supplies current to both current sense amplifier and op amp.", 3 FIL "Filter Pin. Connects to an external capacitor to roll off differential noise of the system. Pole frequency f-3dB = 1/(2pRFILC), RFIL = RE + RO = 60k.", 4 VEE (power) "Negative Supply or Ground for Single Supply Operation.", 5 VOUT (out) "Voltage Output Proportional to the Magnitude of the Current Flowing Through RSENSE: VOUT = AV • (VSENSE +/- VOS) VOS is the input offset voltage. AV is the total gain of the LT6100.", 6 A2 (in) "Gain Select Pin.", 7 A4 (in) "Gain Select Pin. When Pin 7 is shorted to VEE, the total gain is 40V/V. When both Pin 6 and Pin 7 are shorted to VEE, the total gain is 50V/V. When both Pin 6 and Pin 7 are opened, the total gain is 10V/V.", 8 VS+ (in) "Positive Sense Input Terminal. Connecting a supply to VS + and a load to VS - will allow the LT6100 to monitor the current through RSENSE, refer to Figure 1. VS + is connected to an internal gain setting resistor RG2 = 5k. (See Datasheet)"

## LT6100HMS8
designator U?
Single Channel, Precision, Gain Selectable Current Sense, High Side Current Sense Operational Amplifier, 0.15 MHz Typical GBW, 2.7 to 36 V, 8-Pin SOP (MS8-8), High Temperature / Automotive; Linear Technology Part Number: LT6100; Manufacturer: Linear Technology; PartNumber: LT6100HMS8; Channels (#): 1; GBW (MHz) Typical: 0.15; Is (mA) Typical: 0.06; Vos (mV) Guaranteed: 0.3; Vos (mV) Typical: 0.08; Vs Max (V): 36; Vs Min (V): 2.7; DatasheetVersion: Rev. B; PackageVersion: Rev G; PackageReference: LT-MS8-8; PackageDescription: 8-Lead Plastic Small Outline, Body 3.9 x 4.9 mm, Pitch 1.27 mm; Type: CSA; Mounting Technology: Surface Mount; ComponentLink1Description: Manufacturer URL; ComponentLink1URL: http://www.linear.com/; ComponentLink2Description: Datasheet; ComponentLink2URL: http://cds.linear.com/docs/en/datasheet/6100fb.pdf; ComponentLink3Description: Package Specification; ComponentLink3URL: http://cds.linear.com/docs/en/packaging/05081610_G_SO8.pdf
footprint LT-MS8-8_N (SOP, 8-Leads, Body 3x3mm, Pitch 0.65mm, IPC Medium Density)
footprint LT-MS8-8_L (SOP, 8-Leads, Body 3x3mm, Pitch 0.65mm, IPC High Density)
footprint LT-MS8-8_M (SOP, 8-Leads, Body 3x3mm, Pitch 0.65mm, IPC Low Density)
pins: 1 VS- (in) "Negative Sense Input Terminal. Negative sense voltage input will remain functional for voltages up to 48V. VS - is connected to an internal gain-setting resistor RG1 = 5k.", 2 VCC (power) "Supply Voltage Input. This power supply pin supplies current to both current sense amplifier and op amp.", 3 FIL "Filter Pin. Connects to an external capacitor to roll off differential noise of the system. Pole frequency f-3dB = 1/(2pRFILC), RFIL = RE + RO = 60k.", 4 VEE (power) "Negative Supply or Ground for Single Supply Operation.", 5 VOUT (out) "Voltage Output Proportional to the Magnitude of the Current Flowing Through RSENSE: VOUT = AV • (VSENSE +/- VOS) VOS is the input offset voltage. AV is the total gain of the LT6100.", 6 A2 (in) "Gain Select Pin.", 7 A4 (in) "Gain Select Pin. When Pin 7 is shorted to VEE, the total gain is 40V/V. When both Pin 6 and Pin 7 are shorted to VEE, the total gain is 50V/V. When both Pin 6 and Pin 7 are opened, the total gain is 10V/V.", 8 VS+ (in) "Positive Sense Input Terminal. Connecting a supply to VS + and a load to VS - will allow the LT6100 to monitor the current through RSENSE, refer to Figure 1. VS + is connected to an internal gain setting resistor RG2 = 5k. (See Datasheet)"

## LT6100HMS8#PBF
designator U?
Single Channel, Precision, Gain Selectable Current Sense, High Side Current Sense Operational Amplifier, 0.15 MHz Typical GBW, 2.7 to 36 V, 8-Pin SOP (MS8-8), High Temperature / Automotive, Pb-Free; Linear Technology Part Number: LT6100; Manufacturer: Linear Technology; PartNumber: LT6100HMS8#PBF; Channels (#): 1; GBW (MHz) Typical: 0.15; Is (mA) Typical: 0.06; Vos (mV) Guaranteed: 0.3; Vos (mV) Typical: 0.08; Vs Max (V): 36; Vs Min (V): 2.7; DatasheetVersion: Rev. B; PackageVersion: Rev G; PackageReference: LT-MS8-8; PackageDescription: 8-Lead Plastic Small Outline, Body 3.9 x 4.9 mm, Pitch 1.27 mm; Supplier 1: Digi-Key; Supplier Part Number 1: LT6100HMS8#PBF-ND; Supplier 2: Farnell; Supplier Part Number 2: 1330750; Supplier 3: Newark; Supplier Part Number 3: 57M9125; RoHS: Pb-Free; Type: CSA; Mounting Technology: Surface Mount; ComponentLink1Description: Manufacturer URL; ComponentLink1URL: http://www.linear.com/; ComponentLink2Description: Datasheet; ComponentLink2URL: http://cds.linear.com/docs/en/datasheet/6100fb.pdf; ComponentLink3Description: Package Specification; ComponentLink3URL: http://cds.linear.com/docs/en/packaging/05081610_G_SO8.pdf
footprint LT-MS8-8_N (SOP, 8-Leads, Body 3x3mm, Pitch 0.65mm, IPC Medium Density)
footprint LT-MS8-8_L (SOP, 8-Leads, Body 3x3mm, Pitch 0.65mm, IPC High Density)
footprint LT-MS8-8_M (SOP, 8-Leads, Body 3x3mm, Pitch 0.65mm, IPC Low Density)
pins: 1 VS- (in) "Negative Sense Input Terminal. Negative sense voltage input will remain functional for voltages up to 48V. VS - is connected to an internal gain-setting resistor RG1 = 5k.", 2 VCC (power) "Supply Voltage Input. This power supply pin supplies current to both current sense amplifier and op amp.", 3 FIL "Filter Pin. Connects to an external capacitor to roll off differential noise of the system. Pole frequency f-3dB = 1/(2pRFILC), RFIL = RE + RO = 60k.", 4 VEE (power) "Negative Supply or Ground for Single Supply Operation.", 5 VOUT (out) "Voltage Output Proportional to the Magnitude of the Current Flowing Through RSENSE: VOUT = AV • (VSENSE +/- VOS) VOS is the input offset voltage. AV is the total gain of the LT6100.", 6 A2 (in) "Gain Select Pin.", 7 A4 (in) "Gain Select Pin. When Pin 7 is shorted to VEE, the total gain is 40V/V. When both Pin 6 and Pin 7 are shorted to VEE, the total gain is 50V/V. When both Pin 6 and Pin 7 are opened, the total gain is 10V/V.", 8 VS+ (in) "Positive Sense Input Terminal. Connecting a supply to VS + and a load to VS - will allow the LT6100 to monitor the current through RSENSE, refer to Figure 1. VS + is connected to an internal gain setting resistor RG2 = 5k. (See Datasheet)"